# EAGLE library part MCP73826 (library microchip)
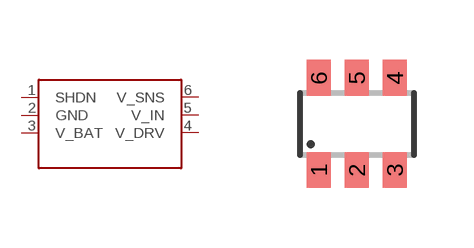
[diagram p144: symbol with the pads of SOT23-6; footprint SOT23-6]

Designator prefix PC

## MCP73826  [SOT23-6]
1  SHDN
2  GND
3  V_BAT
4  V_DRV
5  V_IN
6  V_SNS

## Footprint SOT23-6 (pad centres in mm)
Small Outline Transistor 6 lead
smd 0.6 x 0.9: 1 -0.95,-1.15; 2 0,-1.15; 3 0.95,-1.15; 4 0.95,1.15; 5 0,1.15; 6 -0.95,1.15